# EAGLE library part MCP4018 (library dooba)
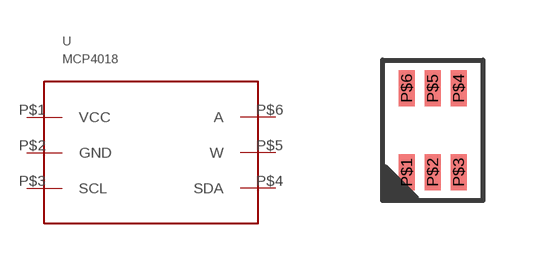
[diagram p20: symbol with the pads of SC-70; footprint SC-70]

Designator prefix U

## MCP4018SC70  [SC-70]
P$1  VCC
P$2  GND
P$3  SCL
P$4  SDA
P$5  W
P$6  A

## Footprint SC-70 (pad centres in mm)
smd 0.4 x 0.9: P$1 -0.65,-1.05; P$2 0,-1.05; P$3 0.65,-1.05; P$4 0.65,1.05; P$5 0,1.05; P$6 -0.65,1.05